# Altium schematic symbol library Schlib1.SchLib: 26 symbols
Pins are listed as number, name and electrical type; pins without a type are passive.

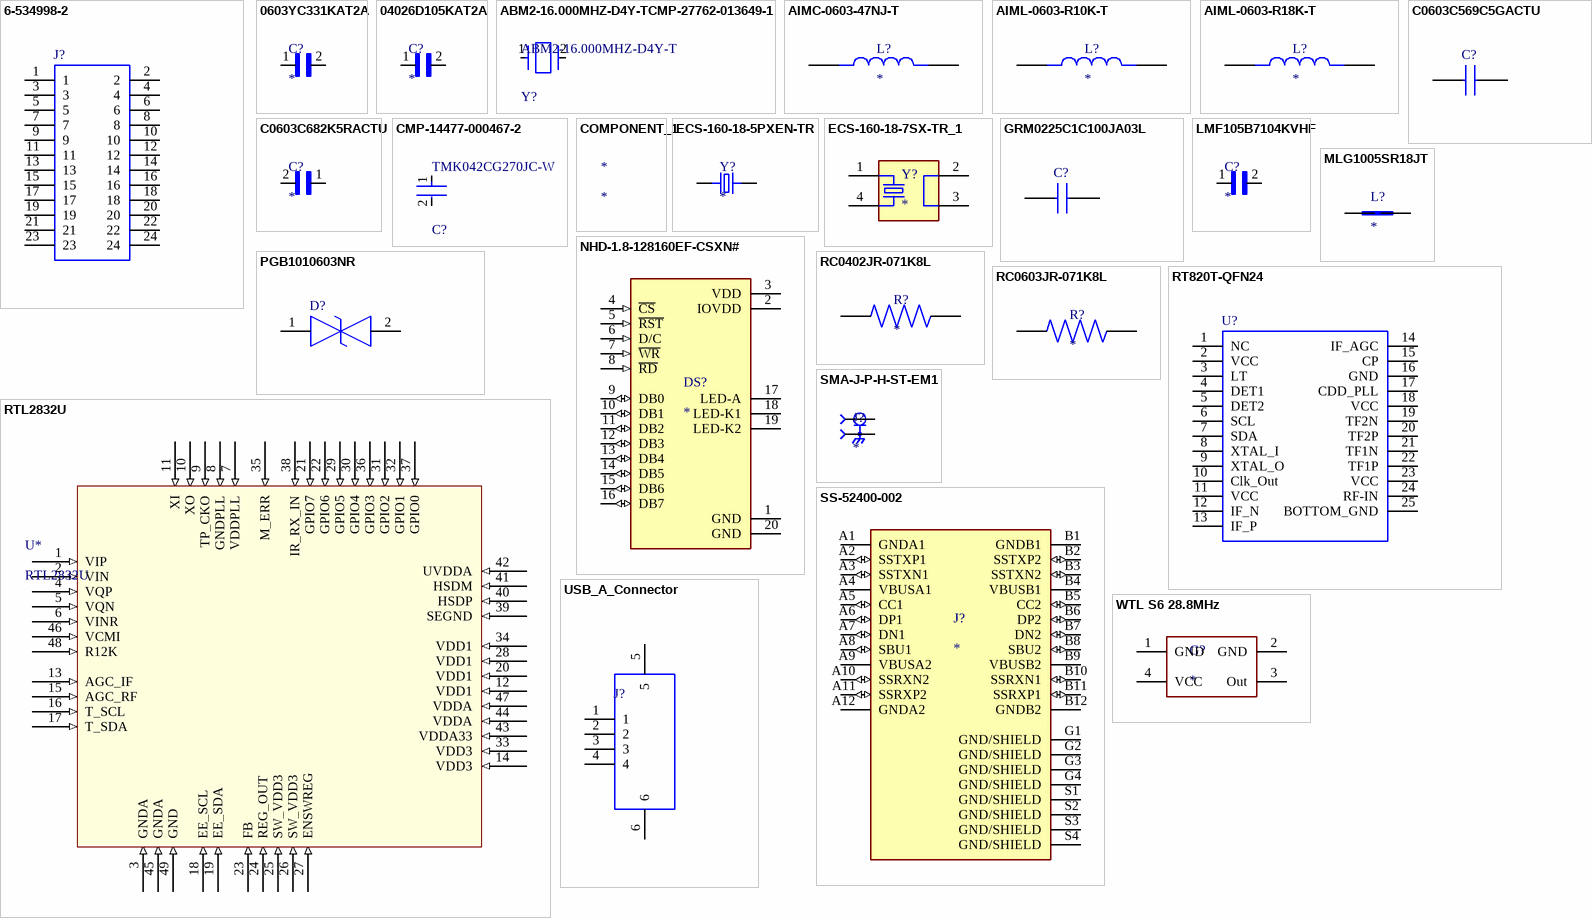
[diagram p0: symbols 6-534998-2 to WTL S6 28.8MHz]

## 6-534998-2
designator J?
Headers & Wire Housings RECEPT 24POS .100 VERT DUAL; Manufacturer_Name: TE Connectivity; Geometry.Height: 6.73mm; Mouser Part Number: 571-6-534998-2; Mouser Price/Stock: https://www.mouser.co.uk/ProductDetail/TE-Connectivity-AMP/6-534998-2?qs=xDp7PGUNC%252BvdpX02YDLw2A%3D%3D; Manufacturer_Part_Number: 6-534998-2; Datasheet Link: https://www.te.com/commerce/DocumentDelivery/DDEController?Action=showdoc&DocId=Customer+Drawing%7F534998%7FP7%7Fpdf%7FEnglish%7FENG_CD_534998_P7.pdf%7F6-534998-2
footprint RHDR24W77P254X254_2X12_3048X503X673P
pins: 1, 2, 3, 4, 5, 6, 7, 8, 9, 10, 11, 12, 13, 14, 15, 16, 17, 18, 19, 20, 21, 22, 23, 24

## 0603YC331KAT2A
designator C?
330 pF Â±10% 16V Ceramic Capacitor X7R 0603 (1608 Metric); MP: 0603YC331KAT2A; MF: AVX; Digi-Key_Part_Number: 478-11843-2-ND; SnapEDA_Link: https://www.snapeda.com/parts/0603YC331KAT2A/AVX+%252F+Kyocera/view-part/?ref=snap; Package: 1608 AVX; Purchase-URL: https://pricing.snapeda.com/search/part/0603YC331KAT2A/?ref=eda; Check_prices: https://www.snapeda.com/parts/0603YC331KAT2A/AVX+%252F+Kyocera/view-part/?ref=eda; Value: *
footprint CAPC1608X90N
pins: 1, 2

## 04026D105KAT2A
designator C?
CERAMIC CAPACITOR, 1UF, 6.3V, X5R, 10%, 0402; MP: 04026D105KAT2A; Package: None; Price: None; Value: *; Availability: Unavailable
footprint CAPC1005X56N (Footprint not found)
pins: 1, 2

## ABM2-16.000MHZ-D4Y-TCMP-27762-013649-1
designator Y?, comment ABM2-16.000MHZ-D4Y-T
Crystal 16MHz ±30ppm 18pF SMD-2 8mm x 4.5mm; ESR (Equivalent Series Resistance): 50R; Frequency: 16MHz; Lead Free: Lead Free; Termination: SMD/SMT; Case/Package: CSMD; Load Capacitance: 18pF; Number of Pins: 2; Max Operating Temperature: 85°C; Packaging: Tape and Reel; Frequency Stability: 30ppm; Length: 8mm; RoHS Compliant: Yes; Mount: Surface Mount; Package Quantity: 1000; Tolerance: 30ppm; Operating Frequency: 16 MHz; Depth: 4.5mm; Frequency Tolerance: 30ppm; Radiation Hardening: No; Width: 4.5mm; Min Operating Temperature: -40°C; Series: ABM2; Height: 0.063inch; Resistor Type: Ceramic
footprint FP-ABM2-MFG
pins: 1, 2

## AIMC-0603-47NJ-T
designator L?
IND 47nH 0.3A 700mâ„¦; MF: Abracon; MP: AIMC-0603-47NJ-T; SnapEDA_Link: https://www.snapeda.com/parts/AIMC-0603-47NJ-T/Abracon/view-part/?ref=snap; Package: 0603 Abracon; Purchase-URL: https://pricing.snapeda.com/search/part/AIMC-0603-47NJ-T/?ref=eda; Price: None; Value: *; Availability: In Stock; Check_prices: https://www.snapeda.com/parts/AIMC-0603-47NJ-T/Abracon/view-part/?ref=eda
footprint INDC1608X95N
pins: 1, 2

## AIML-0603-R10K-T
designator L?
100 nH Shielded Multilayer Inductor 50 mA 500mOhm Max 0603 (1608 Metric); MF: Abracon; MP: AIML-0603-R10K-T; SnapEDA_Link: https://www.snapeda.com/parts/AIML-0603-R10K-T/Abracon/view-part/?ref=snap; Check_prices: https://www.snapeda.com/parts/AIML-0603-R10K-T/Abracon/view-part/?ref=eda; Availability: In Stock; Package: 1608 Taiyo Yuden; Purchase-URL: https://pricing.snapeda.com/search/part/AIML-0603-R10K-T/?ref=eda; Value: *; Price: None
footprint INDC1608X95N
pins: 1, 2

## AIML-0603-R18K-T
designator L?
IND 0.18uH 0.05A 600mâ„¦; MP: AIML-0603-R18K-T; MF: Abracon; SnapEDA_Link: https://www.snapeda.com/parts/AIML-0603-R18K-T/Abracon/view-part/?ref=snap; Purchase-URL: https://pricing.snapeda.com/search/part/AIML-0603-R18K-T/?ref=eda; Package: 1608 Taiyo Yuden; Digi-Key_Part_Number: 535-11612-2-ND; Check_prices: https://www.snapeda.com/parts/AIML-0603-R18K-T/Abracon/view-part/?ref=eda; Value: *
footprint INDC1608X95N
pins: 1, 2

## C0603C569C5GACTU
designator C?
SMD Comm C0G, Ceramic, 5.6 pF, +/-0.25 pF, 50 VDC, 125 VDC, 125C, -55C, C0G, SMD, MLCC, Ultra-Stable, Low Loss, Class I, 0.1 % , 100 GOhms, 3.7 mg, 0603, 1.6mm, 0.8mm, 0.8mm, 0.7mm, 0.35mm, 4000, 78  Weeks, 120; Manufacturer_Name: KEMET; Geometry.Height: 0.87mm; Mouser Part Number: 80-C0603C569C5G; Mouser Price/Stock: https://www.mouser.co.uk/ProductDetail/KEMET/C0603C569C5GACTU?qs=5GGmbjqkbYeYpfQi22ubQQ%3D%3D; Manufacturer_Part_Number: C0603C569C5GACTU; Datasheet Link: https://content.kemet.com/datasheets/KEM_C1003_C0G_SMD.pdf
footprint C0603
pins: 1, 2

## C0603C682K5RACTU
designator C?
Capacitor: ceramic; MLCC; 6.8nF; 50V; X7R; Â±10%; SMD; 0603; MP: C0603C682K5RACTU; Package: None; Price: None; Value: *; Availability: Unavailable
footprint CAPC1608X90
pins: 1, 2

## CMP-14477-000467-2
designator C?, comment TMK042CG270JC-W
None; RoHS Compliant: Yes
footprint FP-01005-L_0_4_0_02-W_0_2-MFG
pins: 1, 2

## COMPONENT_1
designator *

## ECS-160-18-5PXEN-TR
designator Y?
CRYSTAL SMD; MP: ECS-160-18-5PXEN-TR; Package: None; Price: None; Value: *; Availability: Unavailable
footprint XTAL_RTL_SDR(CHINA_WTL_S6)
pins: 1, 2

## ECS-160-18-7SX-TR_1
designator Y?
16 MHz Â±30ppm Crystal 18pF 50 Ohms 4-SOJ, 9.40mm pitch; MF: ECS Inc.; MP: ECS-160-18-7SX-TR; SnapEDA_Link: https://www.snapeda.com/parts/ECS-160-18-7SX-TR/ECS+Inc./view-part/?ref=snap; Value: *; Purchase-URL: https://pricing.snapeda.com/search/part/ECS-160-18-7SX-TR/?ref=eda; Digi-Key_Part_Number: XC2021-2-ND; Check_prices: https://www.snapeda.com/parts/ECS-160-18-7SX-TR/ECS+Inc./view-part/?ref=eda; Package: SOJ-4 ECS International
footprint XTAL_ECS-160-18-7SX-TR
pins: 1, 2, 3, 4

## GRM0225C1C100JA03L
designator C?, comment 10pF_GRM0225C1C100JA03L
Cap Ceramic 10pF 16V C0G 5% Pad SMD 01005 125C T/R; Manufacturer_Name: Murata Electronics; Geometry.Height: 0.22mm; Mouser Part Number: 81-GRM0225C1C100JA3L; Mouser Price/Stock: https://www.mouser.co.uk/ProductDetail/Murata-Electronics/GRM0225C1C100JA03L?qs=qkDYIeTQ%252BEn9GodD6pJsiA%3D%3D; Manufacturer_Part_Number: GRM0225C1C100JA03L; Datasheet Link: https://datasheet.datasheetarchive.com/originals/distributors/DKDS-10/189393.pdf
footprint CAPC0402X22N
pins: 1, 2

## LMF105B7104KVHF
designator C?
MP: LMF105B7104KVHF; Package: None; Price: None; Value: *; Availability: Unavailable
footprint CAPC1005X55N
pins: 1, 2

## MLG1005SR18JT
designator L?
Ind High Frequency Chip Unshielded Multi-Layer 180nH 5% 100MHz 8Q-Factor Ceramic 150mA 0402 T/R; MP: MLG1005SR18JT; Package: None; Price: None; Value: *; Availability: Unavailable
footprint CAPC1005X55N
pins: 1, 2

## NHD-1.8-128160EF-CSXN#
designator DS?
Graphic LCD Display Module Transmissive Red, Green, Blue (RGB) TFT - Color Parallel, 8-Bit 1.8 (45.72mm) 128 x 160; MF: Newhaven Display; MP: NHD-1.8-128160EF-CSXN#; Package: None; Value: *; Purchase-URL: https://pricing.snapeda.com/search/part/NHD-1.8-128160EF-CSXN#/?ref=eda; Availability: Warning; Check_prices: https://www.snapeda.com/parts/NHD-1.8-128160EF-CSXN%23/Newhaven%20Display%20Intl/view-part/426299/?ref=eda; SnapEDA_Link: https://www.snapeda.com/parts/NHD-1.8-128160EF-CSXN%23/Newhaven%20Display%20Intl/view-part/426299/?ref=snap; Price: None
footprint MODULE_NHD-1.8-128160EF-CSXN#
pins: 1 GND (power), 2 IOVDD (power), 3 VDD (power), 4 ~{CS} (in), 5 ~{RST} (in), 6 D/C (in), 7 ~{WR} (in), 8 ~{RD} (in), 9 DB0 (io), 10 DB1 (io), 11 DB2 (io), 12 DB3 (io), 13 DB4 (io), 14 DB5 (io), 15 DB6 (io), 16 DB7 (io), 17 LED-A, 18 LED-K1, 19 LED-K2, 20 GND (power)

## PGB1010603NR
designator D?
ESD Suppressors / TVS Diodes 0603 24VDC .06pF; Manufacturer_Name: LITTELFUSE; Geometry.Height: 0.36mm; Mouser Part Number: 576-PGB1010603NR; Mouser Price/Stock: https://www.mouser.co.uk/ProductDetail/Littelfuse/PGB1010603NR?qs=gu7KAQ731UTJOoBJUwB8FA%3D%3D; Manufacturer_Part_Number: PGB1010603NR; Datasheet Link: https://www.littelfuse.com/data/en/data_sheets/littelfuse_pulseguard-esd_pgb1.pdf
footprint PGB1010603MR
pins: 1, 2

## RC0402JR-071K8L
designator R?
THICK FILM RESISTOR, 1.8KOHM, 62.5mW 5%; MP: RC0402JR-071K8L; Package: None; Price: None; Value: *; Availability: Unavailable
footprint RESC1005X40N
pins: 1, 2

## RC0603JR-071K8L
designator R?
Thick film general purpose; MP: RC0603JR-071K8L; Package: None; Price: None; Value: *; Availability: Unavailable
footprint RESC1608X55N
pins: 1, 2

## RT820T-QFN24
designator U?, comment RT820T
High Performance Low Power / Advanced Digital TV Silicon Tuner; Manufacturer_Name: Rafael Technology; Geometry.Height: 0.9mm; Manufacturer_Part_Number: RT820T; Datasheet Link: https://www.rtl-sdr.com/wp-content/uploads/2013/04/R820T_datasheet-Non_R-20111130_unlocked1.pdf
footprint EFM8LB12F64ES0BQFN24
pins: 1 NC, 2 VCC, 3 LT, 4 DET1, 5 DET2, 6 SCL, 7 SDA, 8 XTAL_I, 9 XTAL_O, 10 Clk_Out, 11 VCC, 12 IF_N, 13 IF_P, 14 IF_AGC, 15 CP, 16 GND, 17 CDD_PLL, 18 VCC, 19 TF2N, 20 TF2P, 21 TF1N, 22 TF1P, 23 VCC, 24 RF-IN, 25 BOTTOM_GND

## RTL2832U
designator U*
RTL2832U DVB-T COFDM Demodulator + USB 2.0; Manufacturer: Realtek; Publisher: ftg; ComponentLink1Description: Work on RTL2832U Datasheet; ComponentLink1URL: https://sites.google.com/site/oh2ftg/home/rtl2832u; Mounting: Surface Mount; Package: QFN48
footprint QFN40P600X600X84_HS-49N (QFN, 48-Leads, Body 6,00x6,00mm, Pitch 0,40mm, Thermal Pad 4,14x4,14mm, IPC Medium Density)
pins: 1 VIP (in) "I+", 2 VIN (in) "I-", 3 GNDA (in) "ANALOG GND", 4 VQP (in) "Q+", 5 VQN (in) "Q-", 6 VINR (in) "7-Bit ADC Input", 7 VDDPLL (in) "PLL VCC", 8 GNDPLL (in) "PLL GND", 9 TP_CKO (in) "Clock input test pin", 10 XO (in) "Xtal osc Out", 11 XI (in) "Xtal osc In", 12 VDD1 (in) "Digital Core Power", 13 AGC_IF (in) "IF AGC out", 14 VDD3 (in) "Digital I/O Power", 15 AGC_RF (in) "RF AGC Out", 16 T_SCL (in) "Tuner I2C SCL", 17 T_SDA (in) "Tuner I2C SDA", 18 EE_SCL (in) "EEPROM I2C SCL", 19 EE_SDA (in) "EEPROM I2C SDA", 20 VDD1 (in) "Digital Core Power", 21 GPIO7 (in), 22 GPIO6 (in), 23 FB (in) "1.2V regulator feedback", 24 REG_OUT (in) "1.2V regulator output", 25 SW_VDD3 (in) "3.3V input for regulator", 26 SW_VDD3 (in) "3.3V input for regulator", 27 ENSWREG (in) "1.2Vregulator ENable", 28 VDD1 (in) "1.2V input", 29 GPIO5 (in), 30 GPIO4 (in), 31 GPIO2 (in), 32 GPIO1 (in), 33 VDD3 (in) "3.3V Input", 34 VDD1 (in) "1.2V Input", 35 M_ERR (in) "MPEG Error out", 36 GPIO3 (in), 37 GPIO0 (in), 38 IR_RX_IN (in) "IR Remote RX IN", 39 SEGND (in) "USB Reference Ground", 40 HSDP (in) "USB+", 41 HSDM (in) "USB-", 42 UVDDA (in) "USB 1.2V Analog Power supply", 43 VDDA33 (in) "AFE 3.3V Supply", 44 VDDA (in) "AFE Power", 45 GNDA (in) "AFE GND", 46 VCMI (in) "ADC AC-coupling reference voltage", 47 VDDA (in) "AFE Power", 48 R12K (in) "10k resistor to ground", 49 GND (in) "Thermal Pad"

## SMA-J-P-H-ST-EM1
designator J?
SMA Connector Jack, Female Socket 50Ohm Board Edge, End Launch Solder; MP: SMA-J-P-H-ST-EM1; Price: None; Value: *; Availability: Unavailable; Package: None
footprint SAMTEC_SMA-J-P-H-ST-EM1
pins: 1, 2_1 2, 2_2 2, 3_1 2, 3_2 2

## SS-52400-002
designator J?
USB Type-C Connector | 1 Port | Right Angle Receptacle | Shielded | 0.039[1.00mm]; MP: SS-52400-002; MF: Stewart Connector; Package: None; Check_prices: https://www.snapeda.com/parts/SS-52400-002/Stewart%20Connector/view-part/4629247/?ref=eda; Value: *; Availability: Warning; SnapEDA_Link: https://www.snapeda.com/parts/SS-52400-002/Stewart%20Connector/view-part/4629247/?ref=snap; Purchase-URL: https://pricing.snapeda.com/search/part/SS-52400-002/?ref=eda; Price: None
footprint BELFUSE_SS-52400-002
pins: A1 GNDA1 (power), A2 SSTXP1 (io), A3 SSTXN1 (io), A4 VBUSA1 (power), A5 CC1 (io), A6 DP1 (io), A7 DN1 (io), A8 SBU1 (io), A9 VBUSA2 (power), A10 SSRXN2 (io), A11 SSRXP2 (io), A12 GNDA2 (power), B1 GNDB1 (power), B2 SSTXP2 (io), B3 SSTXN2 (io), B4 VBUSB1 (power), B5 CC2 (io), B6 DP2 (io), B7 DN2 (io), B8 SBU2 (io), B9 VBUSB2 (power), B10 SSRXN1 (io), B11 SSRXP1 (io), B12 GNDB2 (power), G1 GND/SHIELD (power), G2 GND/SHIELD (power), G3 GND/SHIELD (power), G4 GND/SHIELD (power), S1 GND/SHIELD (power), S2 GND/SHIELD (power), S3 GND/SHIELD (power), S4 GND/SHIELD (power)

## USB_A_Connector
designator J?, comment 614004190021
USB Connectors WR-COM USB Type A THT Horizontal; Manufacturer_Name: Wurth Elektronik; Mouser Part Number: 710-614004190021; Mouser Price/Stock: https://www.mouser.co.uk/ProductDetail/Wurth-Elektronik/614004190021?qs=DvsTirrhYfPiiHUeEQNGBQ%3D%3D; Manufacturer_Part_Number: 614004190021; Datasheet Link: http://katalog.we-online.de/em/datasheet/614004190021.pdf
footprint USB-2.0-TYPE-A
pins: 1, 2, 3, 4, 5, 6

## WTL S6 28.8MHz
designator G?
28.2 MHz Â±1ppm Generator; MF: ECS Inc.; MP: ECS-160-18-7SX-TR; SnapEDA_Link: https://www.snapeda.com/parts/ECS-160-18-7SX-TR/ECS+Inc./view-part/?ref=snap; Value: *; Purchase-URL: https://pricing.snapeda.com/search/part/ECS-160-18-7SX-TR/?ref=eda; Digi-Key_Part_Number: XC2021-2-ND; Check_prices: https://www.snapeda.com/parts/ECS-160-18-7SX-TR/ECS+Inc./view-part/?ref=eda; Package: SOJ-4 ECS International; ComponentLink1Description: New link; ComponentLink1URL: https://aliexpress.ru/item/1005003294067027.html?sku_id=12000025061369255&spm=a2g2w.productlist.search_results.25.2fdd4aa6qno35b
footprint XTAL_RTL_SDR(CHINA_WTL_S6)
pins: 1 GND, 2 GND, 3 Out, 4 VCC